# EAGLE library part TPA6130A2 (library My_TI)
TPA6130A2 138-mW DIRECTPATH™ Stereo Headphone Amplifier with I2C Volume Control. • Power Supply Voltage Range: 2.5 V to 5.5 V • 64 Step Audio Taper Volume Control • Differential Inputs for Maximum Noise Rejection Datashet <http://www.ti.com/lit/ds/symlink/tpa6130a2.pdf>
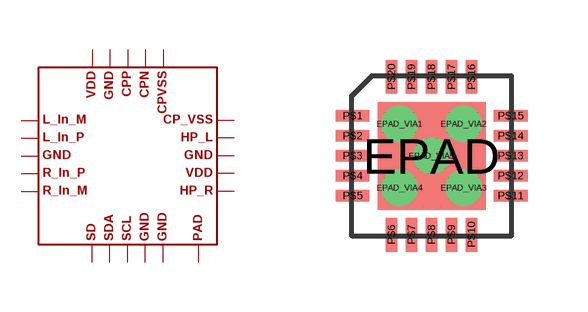
[diagram p43: symbol with the pads of PQFP20; footprint PQFP20]

Designator prefix AMP

## TPA6130A2  [PQFP20]
EPAD  P$21
EPAD_VIA1  P$21
EPAD_VIA2  P$21
EPAD_VIA3  P$21
EPAD_VIA4  P$21
EPAD_VIA5  P$21
P$1  P$1
P$2  P$2
P$3  P$3
P$4  P$4
P$5  P$5
P$6  P$6
P$7  P$7
P$8  P$8
P$9  P$9
P$10  P$10
P$11  P$11
P$12  P$12
P$13  P$13
P$14  P$14
P$15  P$15
P$16  P$16
P$17  P$17
P$18  P$18
P$19  P$19
P$20  P$20

## Footprint PQFP20 (pad centres in mm)
smd 2.7 x 2.7: EPAD 0,0
drill 0.4: EPAD_VIA1 -0.8,0.8; EPAD_VIA2 0.8,0.8; EPAD_VIA3 0.8,-0.8; EPAD_VIA4 -0.8,-0.8; EPAD_VIA5 0,0
smd 0.85 x 0.28: P$1 -1.975,1; P$2 -1.975,0.5; P$3 -1.975,0; P$4 -1.975,-0.5; P$5 -1.975,-1; P$11 1.975,-1; P$12 1.975,-0.5; P$13 1.975,0; P$14 1.975,0.5; P$15 1.975,1
smd 0.28 x 0.85: P$6 -1,-1.975; P$7 -0.5,-1.975; P$8 0,-1.975; P$9 0.5,-1.975; P$10 1,-1.975; P$16 1,1.975; P$17 0.5,1.975; P$18 0,1.975; P$19 -0.5,1.975; P$20 -1,1.975